# EAGLE library part JTAG-10P (library CaliBeta-Conectores)
Conector JTAG 10 pines 2.54mm pitch
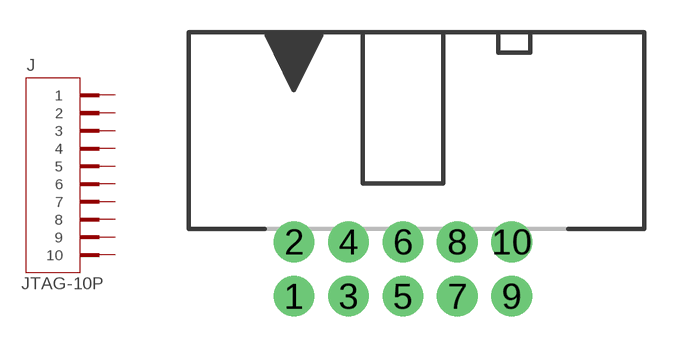
[diagram p3: symbol with the pads of JTAG-10P-R; footprint JTAG-10P-R]

Designator prefix J

## JTAG-10P  [JTAG-10P-R]
1  1  pas
2  2  pas
3  3  pas
4  4  pas
5  5  pas
6  6  pas
7  7  pas
8  8  pas
9  9  pas
10  10  pas

## Footprint JTAG-10P-R (pad centres in mm)
drill 1 pad 1.9: 1 -5.08,-1.27; 2 -5.08,1.27; 3 -2.54,-1.27; 4 -2.54,1.27; 5 0,-1.27; 6 0,1.27; 7 2.54,-1.27; 8 2.54,1.27; 9 5.08,-1.27; 10 5.08,1.27